# Altium footprint library SR PCB Library V01.PcbLib: 402 footprints (part 13 of 26)
Each footprint in its own frame and in the unit in brackets; x right, y up, seen from the top. Pads: shape width x height; smd on the part's side, far side on the other; paste and mask are expansions set on the pad; w line width, h text height; cw(c..) or ccw(c..) is an arc to the next point about the centre after c.
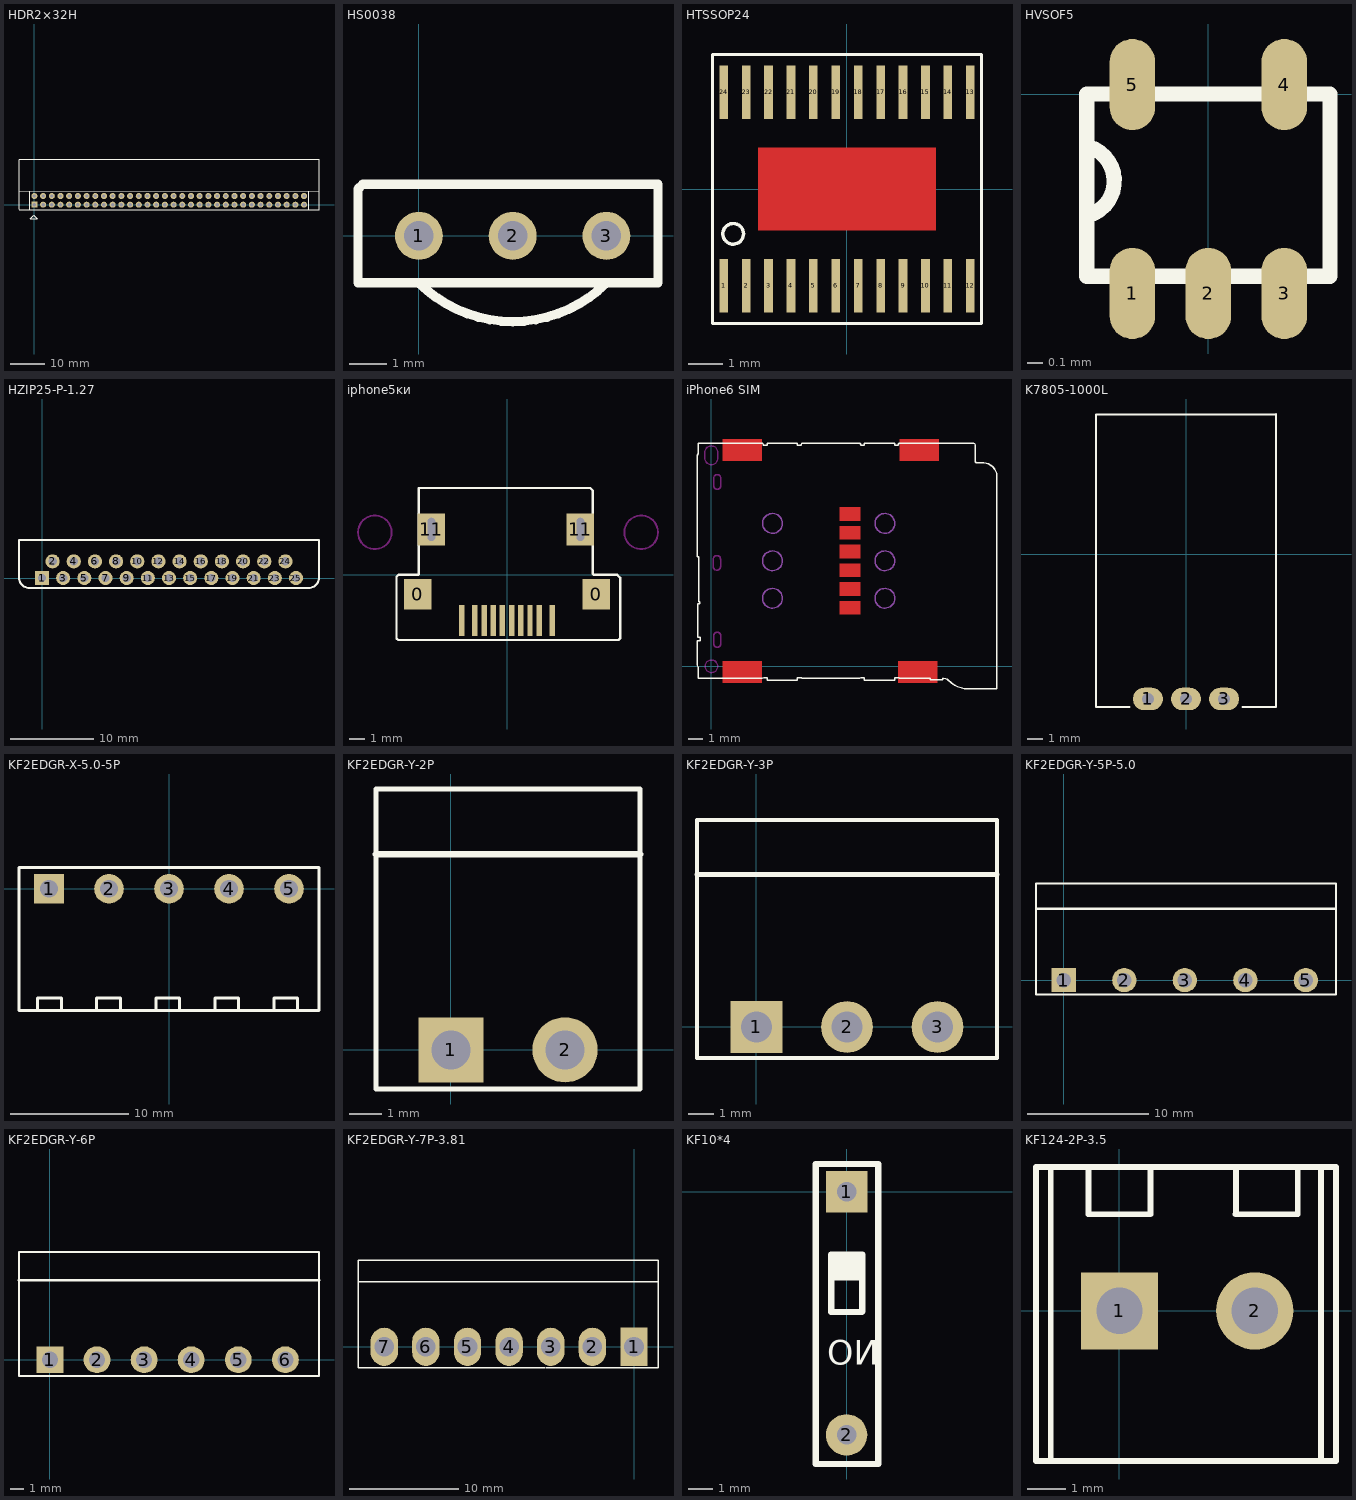
[diagram p12: the footprints below, top view; thin cyan lines are the x and y axes]

## HDR2×32H [mil]
height 452.76
pads (64):
  rect 70x70 hole 40: 1(0,0)
  round 70 hole 40: 2(0,100) 3(100,0) 4(100,100) 5(200,0) 6(200,100) 7(300,0) 8(300,100) 9(400,0) 10(400,100) 11(500,0) 12(500,100) 13(600,0) 14(600,100) 15(700,0) 16(700,100) 17(800,0) 18(800,100) 19(900,0) 20(900,100) 21(1000,0) 22(1000,100) 23(1100,0) 24(1100,100) 25(1200,0) 26(1200,100) 27(1300,0) 28(1300,100) 29(1400,0) 30(1400,100) 31(1500,0) 32(1500,100) 33(1600,0) 34(1600,100) 35(1700,0) 36(1700,100) 37(1800,0) 38(1800,100) 39(1900,0) 40(1900,100) 41(2000,0) 42(2000,100) 43(2100,0) 44(2100,100) 45(2200,0) 46(2200,100) 47(2300,0) 48(2300,100) 49(2400,0) 50(2400,100) 51(2500,0) 52(2500,100) 53(2600,0) 54(2600,100) 55(2700,0) 56(2700,100) 57(2800,0) 58(2800,100) 59(2900,0) 60(2900,100) 61(3000,0) 62(3000,100) 63(3100,0) 64(3100,100)
Top Overlay:
  lines w10: -177,-55 -177,519 ; -176.82,-57 3271.65,-57 3271.65,520 -176,520 ; -176.82,155.5 3271.65,158.05 ; -54.15,-54 -54.15,155 ; 3153.54,-51.18 3153.54,157.48 ; -45.3,-159 14.7,-159 34.7,-159 -5.3,-119 -45.3,-159

## HS0038 [mm]
pads (3):
  round 1.3 hole 0.8: 1(0,0) 2(2.54,0) 3(5.08,0)
Top Overlay:
  lines w0.254: 0,-1.27 ccw(c2.54,1.27) 5.08,-1.27 ; -1.651,-1.27 -1.651,1.27 -1.524,1.397 6.477,1.397 6.477,-1.27 -1.651,-1.27

## HTSSOP24 [mm]
pads (24):
  rect 0.25x1.55 smd: 1(-3.575,-2.8) 2(-2.925,-2.8) 3(-2.275,-2.8) 4(-1.625,-2.8) 5(-0.975,-2.8) 6(-0.325,-2.8) 7(0.325,-2.8) 8(0.975,-2.8) 9(1.625,-2.8) 10(2.275,-2.8) 11(2.925,-2.8) 12(3.575,-2.8) 13(3.575,2.8) 14(2.925,2.8) 15(2.275,2.8) 16(1.625,2.8) 17(0.975,2.8) 18(0.325,2.8) 19(-0.325,2.8) 20(-0.975,2.8) 21(-1.625,2.8) 22(-2.275,2.8) 23(-2.925,2.8) 24(-3.575,2.8)
Top Layer:
  rectangle: -2.58,-1.2 2.58,1.2
Top Overlay:
  circle w0.1: c-3.3,-1.3 r0.3
  lines w0.1: -3.9,-3.9 -3.9,3.9 3.9,3.9 3.9,-3.9 -3.9,-3.9

## HVSOF5 [mm]
pads (5):
  oval 0.3x0.6 smd: 1(-0.5,-1.312) 2(0,-1.312) 3(0.5,-1.312) 4(0.5,0.062) 5(-0.5,0.063)
Top Overlay:
  lines w0.1: -0.784,-0.799 ccw(c-0.857,-0.573) -0.782,-0.348 ; -0.8,-1.2 0.8,-1.2 0.8,0 -0.8,0 -0.8,-1.2

## HZIP25-P-1.27 [mm]
height 17
pads (25):
  rect 1.7x1.7 hole 1: 1(0,0)
  round 1.7 hole 1: 2(1.27,2) 3(2.54,0) 4(3.81,2) 5(5.08,0) 6(6.35,2) 7(7.62,0) 8(8.89,2) 9(10.16,0) 10(11.43,2) 11(12.7,0) 12(13.97,2) 13(15.24,0) 14(16.51,2) 15(17.78,0) 16(19.05,2) 17(20.32,0) 18(21.59,2) 19(22.86,0) 20(24.13,2) 21(25.4,0) 22(26.67,2) 23(27.94,0) 24(29.21,2) 25(30.48,0)
Top Overlay:
  lines w0.254: -2.76,-0.04 -2.76,4.575 33.24,4.575 33.24,0.07 cw(c31.97,0.07) 31.97,-1.2 31.35,-1.2 ; -2.76,0.31 -2.76,0.07 ccw(c-1.49,0.07) -1.49,-1.2 31.48,-1.2

## iphone5ĸͷ [mm]
height 1.75
pads (14):
  rect 1.8x2 smd: 0(-5.84,-1.274) 0(5.84,-1.274)
  rect 0.35x2 smd: 1(-2.107,-2.977) 2(-1.497,-2.977) 3(-0.902,-2.977) 4(-0.301,-2.977) 5(0.297,-2.977) 6(0.901,-2.977) 7(1.501,-2.977) 8(2.099,-2.977) 9(-2.956,-2.977) 10(2.948,-2.977)
  rect 1.8x2.1 hole 0.5 slot 1.5 at 90 deg: 11(-4.939,2.977) 11(4.789,2.976)
Top Overlay:
  lines w0.15: -7.221,-4.147 -7.114,-4.255 7.287,-4.255 7.388,-4.153 7.388,-0.183 7.2,0.005 5.682,0.005 5.607,0.08 5.607,5.523 5.444,5.686 -5.767,5.686 -5.767,0.03 -5.779,0.017 -7.083,0.017 -7.221,-0.12 -7.221,-4.147
Keep-Out Layer:
  circle w0.127: c-8.637,2.783 r1.1
  circle w0.127: c8.763,2.783 r1.1

## iPhone6 SIM [mm]
Top Layer:
  region: 3.423,0.345 3.423,-1.105 0.773,-1.105 0.773,0.345
  region: 3.423,15.395 3.423,13.945 0.773,13.945 0.773,15.395
  region: 15.323,0.345 15.323,-1.105 12.673,-1.105 12.673,0.345
  region: 15.423,15.395 15.423,13.945 12.773,13.945 12.773,15.395
  region: 10.1,4.425 10.1,3.525 8.7,3.525 8.7,4.425
  region: 10.1,5.695 10.1,4.795 8.7,4.795 8.7,5.695
  region: 10.1,6.965 10.1,6.065 8.7,6.065 8.7,6.965
  region: 10.1,8.235 10.1,7.335 8.7,7.335 8.7,8.235
  region: 10.1,10.775 10.1,9.875 8.7,9.875 8.7,10.775
  region: 10.1,9.505 10.1,8.605 8.7,8.605 8.7,9.505
Top Overlay:
  drawing of 250 lines, arcs and shapes, not listed
Top Solder:
  region: 8.675,3.5 8.675,4.45 10.125,4.45 10.125,3.5
  region: 8.675,4.77 8.675,5.72 10.125,5.72 10.125,4.77
  region: 8.675,6.04 8.675,6.99 10.125,6.99 10.125,6.04
  region: 8.675,7.31 8.675,8.26 10.125,8.26 10.125,7.31
  region: 8.675,9.85 8.675,10.8 10.125,10.8 10.125,9.85
  region: 8.675,8.58 8.675,9.53 10.125,9.53 10.125,8.58
  region: 15.423,15.395 15.423,13.945 12.773,13.945 12.773,15.395
  region: 15.323,0.345 15.323,-1.105 12.673,-1.105 12.673,0.345
  region: 3.423,15.395 3.423,13.945 0.773,13.945 0.773,15.395
  region: 3.423,0.345 3.423,-1.105 0.773,-1.105 0.773,0.345
Keep-Out Layer:
  drawing of 627 lines, arcs and shapes, not listed
Mechanical 1:
  circle w0.1: c4.138,4.61 r0.669
  circle w0.1: c4.138,7.15 r0.669
  circle w0.1: c4.138,9.69 r0.669
  circle w0.1: c11.758,9.69 r0.669
  circle w0.1: c11.758,7.15 r0.669
  circle w0.1: c11.759,4.61 r0.669

## K7805-1000L [mm] "电源模块"
pads (3):
  oval 2x1.5 hole 0.8: 1(-2.54,-9.652) 2(0,-9.652) 3(2.54,-9.652)
Top Overlay:
  lines w0.15: -6,-10.152 -6,9.322 6,9.322 6,-10.152 6,9.348 ; -5.994,-10.185 -3.759,-10.185 ; 3.759,-10.185 5.994,-10.185

## KF2EDGR-X-5.0-5P [mm] "母座：KF2EDGR-X-5.0-5P 公头：KF-2EDG-5.0-5P"
pads (5):
  rect 2.5x2.5 hole 1.5: 1(-10.16,0)
  round 2.5 hole 1.5: 2(-5.08,0) 3(0,0) 4(5.08,0) 5(10.16,0)
Top Overlay:
  lines w0.254: -12.7,-10.3 12.7,-10.3 ; -12.7,-10.287 -12.7,1.778 ; -12.7,1.8 12.7,1.8 ; -11.12,-10.25 -11.12,-9.25 -9.12,-9.25 -9.12,-10.25 ; -6.12,-10.25 -6.12,-9.25 -4.12,-9.25 -4.12,-10.25 ; -1.12,-10.25 -1.12,-9.25 0.88,-9.25 0.88,-10.25 ; 3.88,-10.25 3.88,-9.25 5.88,-9.25 5.88,-10.25 ; 8.88,-10.25 8.88,-9.25 10.88,-9.25 10.88,-10.25 ; 12.7,-10.287 12.7,1.778

## KF2EDGR-Y-2P [mm] "3.5mm插拨式接线端子，配合KF2EDG-Y使用"
height 7
pads (2):
  rect 2x2 hole 1.2: 1(0,0)
  round 2 hole 1.2: 2(3.5,0)
Top Overlay:
  lines w0.15: 5.791,-1.2 -2.3,-1.2 -2.3,8 5.791,8 ; 5.8,-1.2 5.8,8
  lines w0.2: -2.3,6 5.8,6

## KF2EDGR-Y-3P [mm] "3.5mm插拨式接线端子，配合KF2EDG-Y使用"
height 7
pads (3):
  rect 2x2 hole 1.2: 1(0,0)
  round 2 hole 1.2: 2(3.5,0) 3(7,0)
Top Overlay:
  lines w0.15: -2.3,-1.2 -2.3,8 9.3,8 9.3,-1.2 -2.3,-1.2
  lines w0.2: -2.3,5.9 9.3,5.9

## KF2EDGR-Y-5P-5.0 [mm] "3.5mm插拨式接线端子，配合KF2EDG-Y使用"
height 7
pads (5):
  rect 2x2 hole 1.2: 1(0,0)
  round 2 hole 1.2: 2(5,0) 3(10,0) 4(15,0) 5(20,0)
Top Overlay:
  lines w0.15: -2.3,-1.2 -2.3,8 22.5,8 22.5,-1.2 -2.3,-1.2
  lines w0.2: -2.3,5.9 22.5,5.9

## KF2EDGR-Y-6P [mm] "3.5mm插拨式接线端子，配合KF2EDG-Y使用"
height 7
pads (6):
  rect 2x2 hole 1.2: 1(0,0)
  round 2 hole 1.2: 2(3.5,0) 3(7,0) 4(10.5,0) 5(14,0) 6(17.5,0)
Top Overlay:
  lines w0.15: -2.3,-1.2 20,-1.2 20,8 -2.3,8 -2.3,-1.2
  lines w0.2: -2.3,5.9 20,5.9

## KF2EDGR-Y-7P-3.81 [mm]
height 11
pads (7):
  rect 2.5x3.5 hole 1.8: 1(0,0)
  oval 2.5x3.5 hole 1.8: 2(-3.81,0) 3(-7.62,0) 4(-11.43,0) 5(-15.24,0) 6(-19.05,0) 7(-22.86,0)
Top Overlay:
  lines w0.12: -25.258,7.925 -25.258,-1.922 -8.103,-1.922 ; -25.258,7.932 -23.099,7.932 ; -23.171,7.932 -10.033,7.932 ; 2.195,-1.93 2.195,7.925
  lines w0.127: -25.207,5.961 2.195,5.961 ; -10.084,7.932 2.195,7.932 ; -8.026,-1.93 2.195,-1.93

## KF10*4 [mm]
pads (2):
  rect 1.7x1.7 hole 0.8: 1(0,0)
  round 1.7 hole 0.8: 2(0,-10)
Top Overlay:
  lines w0.254: -0.63,-3.53 0.61,-3.53 0.46,-3.38 -0.5,-3.38 -0.53,-3.35 -0.53,-3.13 0.64,-3.13 0.49,-2.98 -0.58,-2.98 -0.63,-2.93 ; -0.61,-2.78 0.64,-2.78 ; -1.27,-11.2 1.3,-11.2 1.3,1.14 -1.27,1.14 -1.27,-11.2 ; -0.63,-4.95 0.62,-4.95 0.64,-4.93 0.64,-2.58 -0.63,-2.58 -0.63,-4.95
  text "ON" at -0.8,-6.1 h1

## KF124-2P-3.5 [mm]
pads (2):
  rect 2x2 hole 1.2: 1(0,0)
  round 2 hole 1.2: 2(3.5,0)
Top Overlay:
  lines w0.15: -1.778,-3.88 -1.778,3.7 ; -0.8,3.7 -0.8,2.51 -0.81,2.5 0.8,2.5 ; 3.01,3.7 3.01,2.51 3,2.5 4.61,2.5 4.61,3.69 4.6,3.7 ; 5.211,-3.88 5.211,3.7 ; 0.8,2.5 0.8,3.69 ; 0.8,2.5 0.8,3.69 ; 0.8,3.69 0.79,3.7 0.8,3.69 ; -2.159,-3.88 -2.159,3.721 5.6,3.721 5.6,-3.88 -2.159,-3.88